# EAGLE library part MCP6024-E/ST (library 029000100  -  gKEagleLibrary)
Op Amps
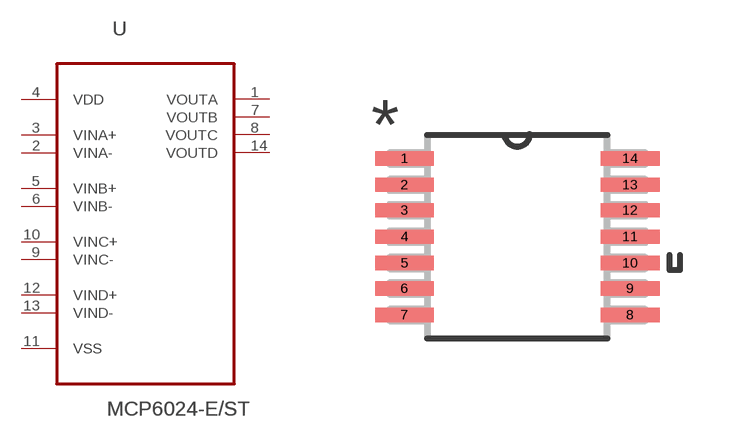
[diagram p34: symbol with the pads of SOP65P640X120-14N; footprint SOP65P640X120-14N]

Designator prefix -

## MCP6024-E/ST (MPN: MCP6024-E/ST; OC_FARNELL: 1840891; OC_NEWARK: 88H9892; PACKAGE: SOP-14; SUPPLIER: Microchip)  [SOP65P640X120-14N]
1  VOUTA  out
2  VINA-  in
3  VINA+  in
4  VDD  pwr
5  VINB+  in
6  VINB-  in
7  VOUTB  out
8  VOUTC  out
9  VINC-  in
10  VINC+  in
11  VSS  pwr
12  VIND+  out
13  VIND-  in
14  VOUTD  out

## Footprint SOP65P640X120-14N (pad centres in mm)
smd 1.473 x 0.356: 1 -2.819,1.956; 2 -2.819,1.295; 3 -2.819,0.66; 4 -2.819,0; 5 -2.819,-0.66; 6 -2.819,-1.295; 7 -2.819,-1.956; 8 2.819,-1.956; 9 2.819,-1.295; 10 2.819,-0.66; 11 2.819,0; 12 2.819,0.66; 13 2.819,1.295; 14 2.819,1.956